# Altium schematic symbol library ECS-.327-6-13X.SchLib: 1 symbol
Pins are listed as number, name and electrical type; pins without a type are passive.

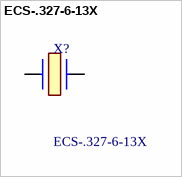
[diagram p0: symbol ECS-.327-6-13X]

## ECS-.327-6-13X
designator X?
32.768 kHz +/-20ppm Crystal 6pF 35 kOhms Cylindrical Can, Radial; Manufacturer_Name: ECS; Geometry.Height: 6.2mm; Mouser Part Number: 520-ECS327-6-13-X; Mouser Price/Stock: https://www.mouser.co.uk/ProductDetail/ECS/ECS-.327-6-13X?qs=aGohqJksTCIxgMwEoE0VEw%3D%3D; Manufacturer_Part_Number: ECS-.327-6-13X; Datasheet Link: https://ecsxtal.com/store/pdf/ECS-3x8X%25202x6X%25201X5X.pdf
footprint ECS327613X
pins: 1, 2